# EAGLE library part MCP23009 (library Microchip)
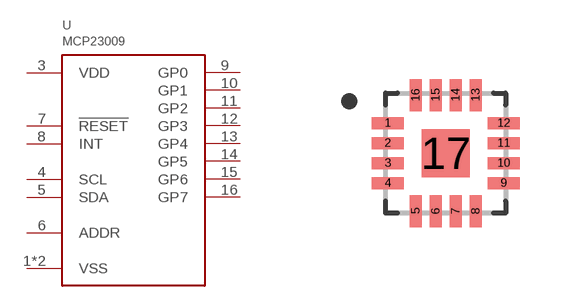
[diagram p45: symbol with the pads of QFN16; footprint QFN16]

Designator prefix U

## MCP23009  [QFN16]
1  VSS
3  VDD
4  SCL
5  SDA
6  ADDR
7  !RESET
8  INT
9  GP0
10  GP1
11  GP2
12  GP3
13  GP4
14  GP5
15  GP6
16  GP7
17  VSS

## Footprint QFN16 (pad centres in mm)
smd 0.8 x 0.3: 1 -1.45,0.75; 2 -1.45,0.25; 3 -1.45,-0.25; 4 -1.45,-0.75; 9 1.45,-0.75; 10 1.45,-0.25; 11 1.45,0.25; 12 1.45,0.75
smd 0.3 x 0.8: 5 -0.75,-1.45; 6 -0.25,-1.45; 7 0.25,-1.45; 8 0.75,-1.45; 13 0.75,1.45; 14 0.25,1.45; 15 -0.25,1.45; 16 -0.75,1.45
smd 1.2 x 1.2: 17 0,0